# Altium schematic symbol library INA114AU_1K.SchLib: 1 symbol
Pins are listed as number, name and electrical type; pins without a type are passive.

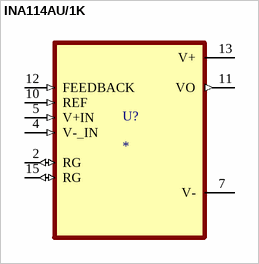
[diagram p0: symbol INA114AU/1K]

## INA114AU/1K
designator U?
MP: INA114AU/1K; Package: None; Price: None; Value: *; Availability: Unavailable
footprint SOIC127P1030X265-16N
pins: 2 RG (io), 4 V-_IN (in), 5 V+IN (in), 7 V- (power), 10 REF (in), 11 VO (out), 12 FEEDBACK (in), 13 V+ (power), 15 RG (io)